# Altium footprint library TSOP (0.5mm Pitch).PcbLib: 14 footprints
Each footprint in its own frame and in the unit in brackets; x right, y up, seen from the top. Pads: shape width x height; smd on the part's side, far side on the other; paste and mask are expansions set on the pad; w line width, h text height; cw(c..) or ccw(c..) is an arc to the next point about the centre after c.
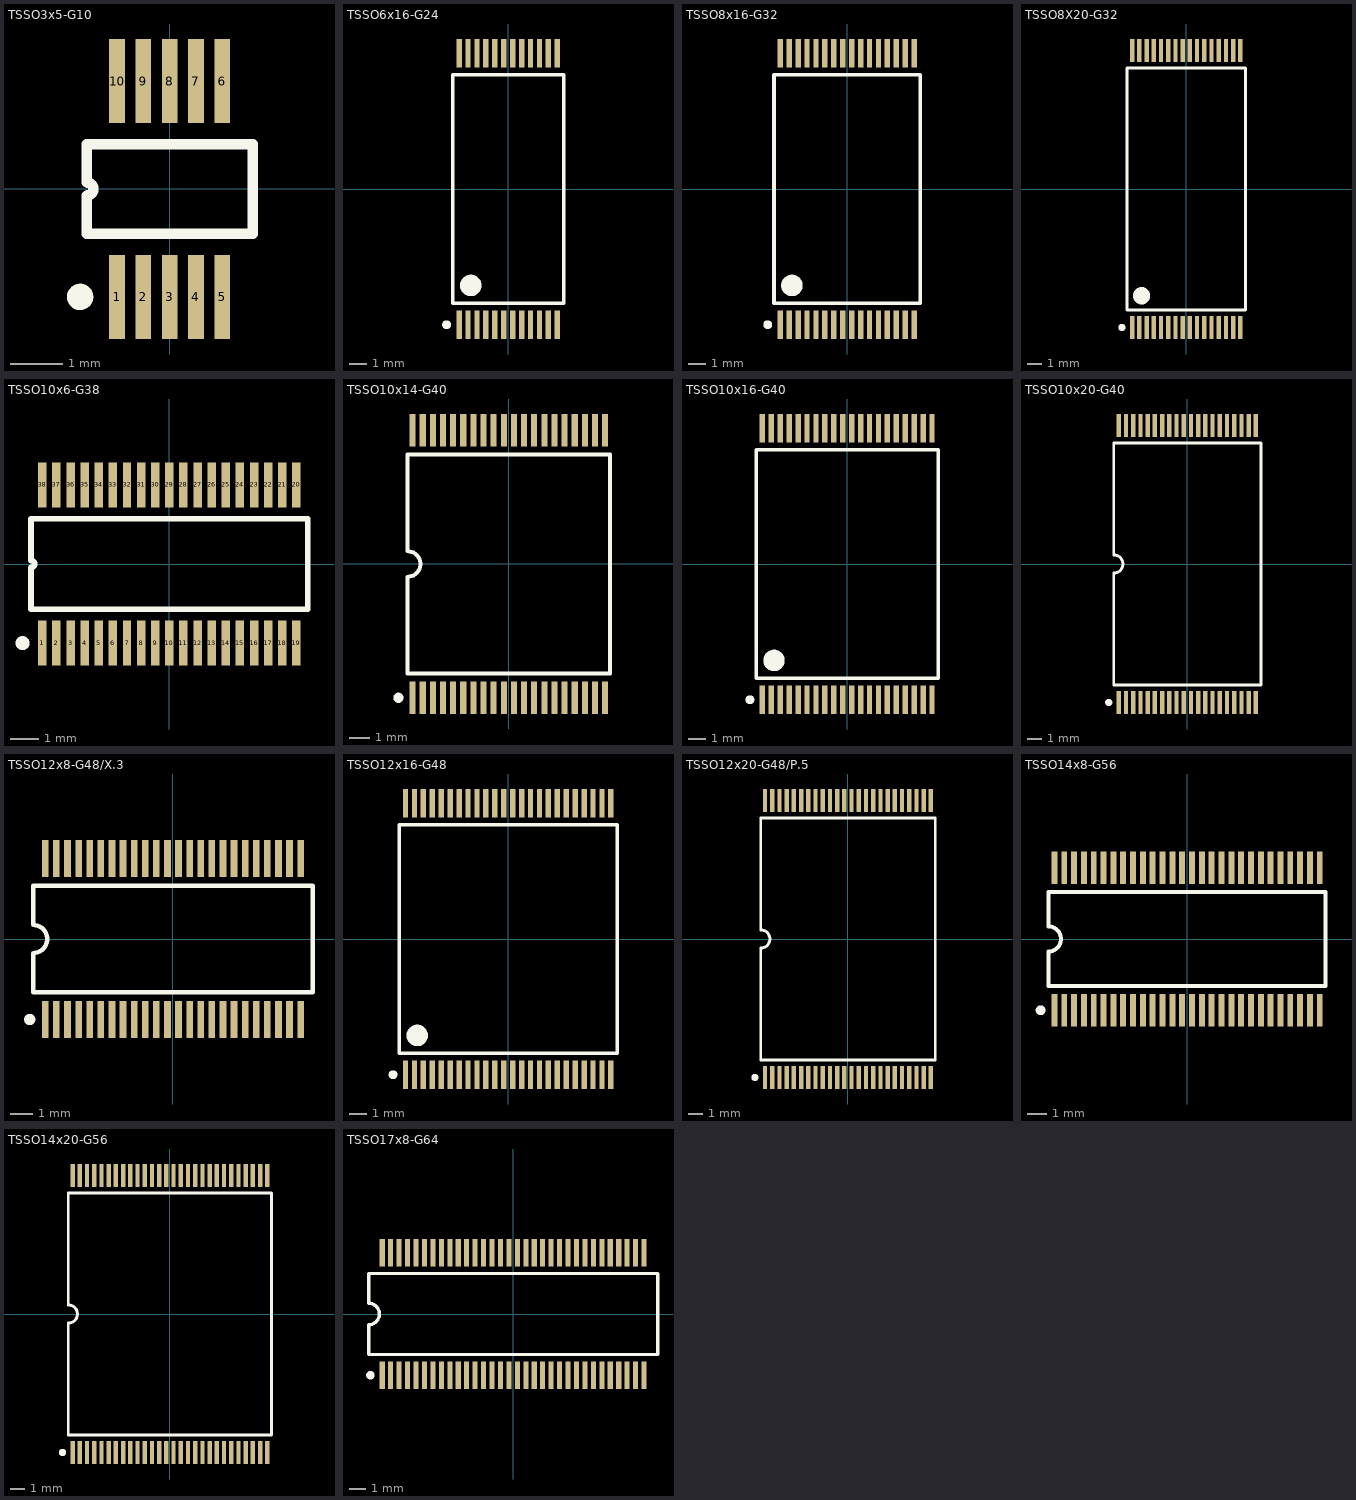
[diagram p0: the footprints below, top view; thin cyan lines are the x and y axes]

## TSSO3x5-G10 [mm] "Shrink Small Outline; 10 Leads; Body Width 3 mm; Pitch 0.5 mm"
height 1.1
pads (10):
  rect 0.3x1.6 smd: 1(-1,-2.05) 2(-0.5,-2.05) 3(0,-2.05) 4(0.5,-2.05) 5(1,-2.05) 6(1,2.05) 7(0.5,2.05) 8(0,2.05) 9(-0.5,2.05) 10(-1,2.05)
Top Overlay:
  circle w0.25: c-1.7,-2.05 r0.125
  lines w0.2: -1.575,-0.85 1.575,-0.85 1.575,0.85 -1.575,0.85 -1.575,0.125 cw(c-1.575,0) -1.575,-0.125 -1.575,-0.85

## TSSO6x16-G24 [mm] "Shrink Small Outline; 24 Leads; Body Width 14.4 mm; Pitch 0.5 mm"
height 1.27
pads (24):
  rect 0.3x1.6 smd: 1(-2.75,-7.6) 2(-2.25,-7.6) 3(-1.75,-7.6) 4(-1.25,-7.6) 5(-0.75,-7.6) 6(-0.25,-7.6) 7(0.25,-7.6) 8(0.75,-7.6) 9(1.25,-7.6) 10(1.75,-7.6) 11(2.25,-7.6) 12(2.75,-7.6) 13(2.75,7.6) 14(2.25,7.6) 15(1.75,7.6) 16(1.25,7.6) 17(0.75,7.6) 18(0.25,7.6) 19(-0.25,7.6) 20(-0.75,7.6) 21(-1.25,7.6) 22(-1.75,7.6) 23(-2.25,7.6) 24(-2.75,7.6)
Top Overlay:
  circle w0.25: c-3.45,-7.6 r0.125
  circle w0.6: c-2.1,-5.4 r0.3
  lines w0.2: -3.1,-6.4 -3.1,-0.635 -3.1,6.4 3.1,6.4 3.1,-6.4 -3.1,-6.4

## TSSO8x16-G32 [mm] "Shrink Small Outline; 32 Leads; Body Width 14.4 mm; Pitch 0.5 mm"
height 1.27
pads (32):
  rect 0.3x1.6 smd: 1(-3.75,-7.6) 2(-3.25,-7.6) 3(-2.75,-7.6) 4(-2.25,-7.6) 5(-1.75,-7.6) 6(-1.25,-7.6) 7(-0.75,-7.6) 8(-0.25,-7.6) 9(0.25,-7.6) 10(0.75,-7.6) 11(1.25,-7.6) 12(1.75,-7.6) 13(2.25,-7.6) 14(2.75,-7.6) 15(3.25,-7.6) 16(3.75,-7.6) 17(3.75,7.6) 18(3.25,7.6) 19(2.75,7.6) 20(2.25,7.6) 21(1.75,7.6) 22(1.25,7.6) 23(0.75,7.6) 24(0.25,7.6) 25(-0.25,7.6) 26(-0.75,7.6) 27(-1.25,7.6) 28(-1.75,7.6) 29(-2.25,7.6) 30(-2.75,7.6) 31(-3.25,7.6) 32(-3.75,7.6)
Top Overlay:
  circle w0.6: c-3.1,-5.4 r0.3
  circle w0.25: c-4.45,-7.6 r0.125
  lines w0.2: -4.1,-6.4 4.1,-6.4 4.1,6.4 -4.1,6.4 -4.1,-0.635 -4.1,-6.4

## TSSO8X20-G32 [mm] "Shrink Small Outline, Plastic, Thin; 32 Leads; Body Width 18.4 mm; Pitch 0.5 mm"
height 1.2
pads (32):
  rect 0.3x1.6 smd: 1(-3.75,-9.6) 2(-3.25,-9.6) 3(-2.75,-9.6) 4(-2.25,-9.6) 5(-1.75,-9.6) 6(-1.25,-9.6) 7(-0.75,-9.6) 8(-0.25,-9.6) 9(0.25,-9.6) 10(0.75,-9.6) 11(1.25,-9.6) 12(1.75,-9.6) 13(2.25,-9.6) 14(2.75,-9.6) 15(3.25,-9.6) 16(3.75,-9.6) 17(3.75,9.6) 18(3.25,9.6) 19(2.75,9.6) 20(2.25,9.6) 21(1.75,9.6) 22(1.25,9.6) 23(0.75,9.6) 24(0.25,9.6) 25(-0.25,9.6) 26(-0.75,9.6) 27(-1.25,9.6) 28(-1.75,9.6) 29(-2.25,9.6) 30(-2.75,9.6) 31(-3.25,9.6) 32(-3.75,9.6)
Top Overlay:
  circle w0.6: c-3.1,-7.4 r0.3
  circle w0.25: c-4.46,-9.6 r0.125
  lines w0.2: -4.1,-8.4 4.1,-8.4 4.1,8.4 -4.1,8.4 -4.1,-0.635 -4.1,-8.4

## TSSO10x6-G38 [mm] "Shrink Small Outline; 38 Leads; Body Width 4.4 mm; Pitch 0.5 mm"
height 1.1
pads (38):
  rect 0.3x1.6 smd: 1(-4.5,-2.8) 2(-4,-2.8) 3(-3.5,-2.8) 4(-3,-2.8) 5(-2.5,-2.8) 6(-2,-2.8) 7(-1.5,-2.8) 8(-1,-2.8) 9(-0.5,-2.8) 10(0,-2.8) 11(0.5,-2.8) 12(1,-2.8) 13(1.5,-2.8) 14(2,-2.8) 15(2.5,-2.8) 16(3,-2.8) 17(3.5,-2.8) 18(4,-2.8) 19(4.5,-2.8) 20(4.5,2.8) 21(4,2.8) 22(3.5,2.8) 23(3,2.8) 24(2.5,2.8) 25(2,2.8) 26(1.5,2.8) 27(1,2.8) 28(0.5,2.8) 29(0,2.8) 30(-0.5,2.8) 31(-1,2.8) 32(-1.5,2.8) 33(-2,2.8) 34(-2.5,2.8) 35(-3,2.8) 36(-3.5,2.8) 37(-4,2.8) 38(-4.5,2.8)
Top Overlay:
  circle w0.25: c-5.2,-2.8 r0.125
  lines w0.2: -4.9,-1.6 4.9,-1.6 4.9,1.6 -4.9,1.6 -4.9,0.125 cw(c-4.9,0) -4.9,-0.125 -4.9,-1.6

## TSSO10x14-G40 [mm] "Shrink Small Outline; 40 Leads; Body Width 12.4 mm; Pitch 0.5 mm"
height 1.2
pads (40):
  rect 0.3x1.6 smd: 1(-4.75,-6.6) 2(-4.25,-6.6) 3(-3.75,-6.6) 4(-3.25,-6.6) 5(-2.75,-6.6) 6(-2.25,-6.6) 7(-1.75,-6.6) 8(-1.25,-6.6) 9(-0.75,-6.6) 10(-0.25,-6.6) 11(0.25,-6.6) 12(0.75,-6.6) 13(1.25,-6.6) 14(1.75,-6.6) 15(2.25,-6.6) 16(2.75,-6.6) 17(3.25,-6.6) 18(3.75,-6.6) 19(4.25,-6.6) 20(4.75,-6.6) 21(4.75,6.6) 22(4.25,6.6) 23(3.75,6.6) 24(3.25,6.6) 25(2.75,6.6) 26(2.25,6.6) 27(1.75,6.6) 28(1.25,6.6) 29(0.75,6.6) 30(0.25,6.6) 31(-0.25,6.6) 32(-0.75,6.6) 33(-1.25,6.6) 34(-1.75,6.6) 35(-2.25,6.6) 36(-2.75,6.6) 37(-3.25,6.6) 38(-3.75,6.6) 39(-4.25,6.6) 40(-4.75,6.6)
Top Overlay:
  circle w0.25: c-5.45,-6.6 r0.125
  lines w0.2: -5,-5.4 5,-5.4 5,5.4 -5,5.4 -5,0.635 cw(c-5,0) -5,-0.635 -5,-5.4

## TSSO10x16-G40 [mm] "Shrink Small Outline; 40 Leads; Body Width 14.4 mm; Pitch 0.5 mm"
height 1.27
pads (40):
  rect 0.3x1.6 smd: 1(-4.75,-7.6) 2(-4.25,-7.6) 3(-3.75,-7.6) 4(-3.25,-7.6) 5(-2.75,-7.6) 6(-2.25,-7.6) 7(-1.75,-7.6) 8(-1.25,-7.6) 9(-0.75,-7.6) 10(-0.25,-7.6) 11(0.25,-7.6) 12(0.75,-7.6) 13(1.25,-7.6) 14(1.75,-7.6) 15(2.25,-7.6) 16(2.75,-7.6) 17(3.25,-7.6) 18(3.75,-7.6) 19(4.25,-7.6) 20(4.75,-7.6) 21(4.75,7.6) 22(4.25,7.6) 23(3.75,7.6) 24(3.25,7.6) 25(2.75,7.6) 26(2.25,7.6) 27(1.75,7.6) 28(1.25,7.6) 29(0.75,7.6) 30(0.25,7.6) 31(-0.25,7.6) 32(-0.75,7.6) 33(-1.25,7.6) 34(-1.75,7.6) 35(-2.25,7.6) 36(-2.75,7.6) 37(-3.25,7.6) 38(-3.75,7.6) 39(-4.25,7.6) 40(-4.75,7.6)
Top Overlay:
  circle w0.25: c-5.45,-7.6 r0.125
  circle w0.6: c-4.1,-5.4 r0.3
  lines w0.2: -5.1,-6.4 -5.1,-0.635 -5.1,6.4 5.1,6.4 5.1,-6.4 -5.1,-6.4

## TSSO10x20-G40 [mm] "Shrink Small Outline; 40 Leads; Body Width 18.4 mm; Pitch 0.5 mm"
height 1.2
pads (40):
  rect 0.3x1.6 smd: 1(-4.75,-9.6) 2(-4.25,-9.6) 3(-3.75,-9.6) 4(-3.25,-9.6) 5(-2.75,-9.6) 6(-2.25,-9.6) 7(-1.75,-9.6) 8(-1.25,-9.6) 9(-0.75,-9.6) 10(-0.25,-9.6) 11(0.25,-9.6) 12(0.75,-9.6) 13(1.25,-9.6) 14(1.75,-9.6) 15(2.25,-9.6) 16(2.75,-9.6) 17(3.25,-9.6) 18(3.75,-9.6) 19(4.25,-9.6) 20(4.75,-9.6) 21(4.75,9.6) 22(4.25,9.6) 23(3.75,9.6) 24(3.25,9.6) 25(2.75,9.6) 26(2.25,9.6) 27(1.75,9.6) 28(1.25,9.6) 29(0.75,9.6) 30(0.25,9.6) 31(-0.25,9.6) 32(-0.75,9.6) 33(-1.25,9.6) 34(-1.75,9.6) 35(-2.25,9.6) 36(-2.75,9.6) 37(-3.25,9.6) 38(-3.75,9.6) 39(-4.25,9.6) 40(-4.75,9.6)
Top Overlay:
  circle w0.25: c-5.45,-9.6 r0.125
  lines w0.2: -5.1,-8.4 5.1,-8.4 5.1,8.4 -5.1,8.4 -5.1,0.635 cw(c-5.1,0) -5.1,-0.635 -5.1,-8.4

## TSSO12x8-G48/X.3 [mm] "Shrink Small Outline; 48 Leads; Body Width 6.1 mm; Pitch 0.5 mm"
height 1.2
pads (48):
  rect 0.3x1.65 smd: 1(-5.75,-3.625) 2(-5.25,-3.625) 3(-4.75,-3.625) 4(-4.25,-3.625) 5(-3.75,-3.625) 6(-3.25,-3.625) 7(-2.75,-3.625) 8(-2.25,-3.625) 9(-1.75,-3.625) 10(-1.25,-3.625) 11(-0.75,-3.625) 12(-0.25,-3.625) 13(0.25,-3.625) 14(0.75,-3.625) 15(1.25,-3.625) 16(1.75,-3.625) 17(2.25,-3.625) 18(2.75,-3.625) 19(3.25,-3.625) 20(3.75,-3.625) 21(4.25,-3.625) 22(4.75,-3.625) 23(5.25,-3.625) 24(5.75,-3.625) 25(5.75,3.625) 26(5.25,3.625) 27(4.75,3.625) 28(4.25,3.625) 29(3.75,3.625) 30(3.25,3.625) 31(2.75,3.625) 32(2.25,3.625) 33(1.75,3.625) 34(1.25,3.625) 35(0.75,3.625) 36(0.25,3.625) 37(-0.25,3.625) 38(-0.75,3.625) 39(-1.25,3.625) 40(-1.75,3.625) 41(-2.25,3.625) 42(-2.75,3.625) 43(-3.25,3.625) 44(-3.75,3.625) 45(-4.25,3.625) 46(-4.75,3.625) 47(-5.25,3.625) 48(-5.75,3.625)
Top Overlay:
  circle w0.25: c-6.45,-3.625 r0.125
  lines w0.2: -6.3,-2.4 6.3,-2.4 6.3,2.4 -6.3,2.4 -6.3,0.635 cw(c-6.3,0) -6.3,-0.635 -6.3,-2.4

## TSSO12x16-G48 [mm] "Shrink Small Outline; 48 Leads; Body Width 14.4 mm; Pitch 0.5 mm"
height 1.27
pads (48):
  rect 0.3x1.6 smd: 1(-5.75,-7.6) 2(-5.25,-7.6) 3(-4.75,-7.6) 4(-4.25,-7.6) 5(-3.75,-7.6) 6(-3.25,-7.6) 7(-2.75,-7.6) 8(-2.25,-7.6) 9(-1.75,-7.6) 10(-1.25,-7.6) 11(-0.75,-7.6) 12(-0.25,-7.6) 13(0.25,-7.6) 14(0.75,-7.6) 15(1.25,-7.6) 16(1.75,-7.6) 17(2.25,-7.6) 18(2.75,-7.6) 19(3.25,-7.6) 20(3.75,-7.6) 21(4.25,-7.6) 22(4.75,-7.6) 23(5.25,-7.6) 24(5.75,-7.6) 25(5.75,7.6) 26(5.25,7.6) 27(4.75,7.6) 28(4.25,7.6) 29(3.75,7.6) 30(3.25,7.6) 31(2.75,7.6) 32(2.25,7.6) 33(1.75,7.6) 34(1.25,7.6) 35(0.75,7.6) 36(0.25,7.6) 37(-0.25,7.6) 38(-0.75,7.6) 39(-1.25,7.6) 40(-1.75,7.6) 41(-2.25,7.6) 42(-2.75,7.6) 43(-3.25,7.6) 44(-3.75,7.6) 45(-4.25,7.6) 46(-4.75,7.6) 47(-5.25,7.6) 48(-5.75,7.6)
Top Overlay:
  circle w0.25: c-6.45,-7.6 r0.125
  circle w0.6: c-5.1,-5.4 r0.3
  lines w0.2: -6.1,-6.4 -6.1,-0.635 -6.1,6.4 6.1,6.4 6.1,-6.4 -6.1,-6.4

## TSSO12x20-G48/P.5 [mm] "Shrink Small Outline; 48 Leads; Body Width 18.4 mm; Pitch 0.5 mm"
height 1.2
pads (48):
  rect 0.3x1.6 smd: 1(-5.75,-9.6) 2(-5.25,-9.6) 3(-4.75,-9.6) 4(-4.25,-9.6) 5(-3.75,-9.6) 6(-3.25,-9.6) 7(-2.75,-9.6) 8(-2.25,-9.6) 9(-1.75,-9.6) 10(-1.25,-9.6) 11(-0.75,-9.6) 12(-0.25,-9.6) 13(0.25,-9.6) 14(0.75,-9.6) 15(1.25,-9.6) 16(1.75,-9.6) 17(2.25,-9.6) 18(2.75,-9.6) 19(3.25,-9.6) 20(3.75,-9.6) 21(4.25,-9.6) 22(4.75,-9.6) 23(5.25,-9.6) 24(5.75,-9.6) 25(5.75,9.6) 26(5.25,9.6) 27(4.75,9.6) 28(4.25,9.6) 29(3.75,9.6) 30(3.25,9.6) 31(2.75,9.6) 32(2.25,9.6) 33(1.75,9.6) 34(1.25,9.6) 35(0.75,9.6) 36(0.25,9.6) 37(-0.25,9.6) 38(-0.75,9.6) 39(-1.25,9.6) 40(-1.75,9.6) 41(-2.25,9.6) 42(-2.75,9.6) 43(-3.25,9.6) 44(-3.75,9.6) 45(-4.25,9.6) 46(-4.75,9.6) 47(-5.25,9.6) 48(-5.75,9.6)
Top Overlay:
  circle w0.25: c-6.45,-9.6 r0.125
  lines w0.2: -6.05,-8.4 6.05,-8.4 6.05,8.4 -6.05,8.4 -6.05,0.635 cw(c-6.05,0) -6.05,-0.635 -6.05,-8.4

## TSSO14x8-G56 [mm] "Shrink Small Outline; 56 Leads; Body Width 6.1 mm; Pitch 0.5 mm"
height 1.2
pads (56):
  rect 0.3x1.65 smd: 1(-6.75,-3.625) 2(-6.25,-3.625) 3(-5.75,-3.625) 4(-5.25,-3.625) 5(-4.75,-3.625) 6(-4.25,-3.625) 7(-3.75,-3.625) 8(-3.25,-3.625) 9(-2.75,-3.625) 10(-2.25,-3.625) 11(-1.75,-3.625) 12(-1.25,-3.625) 13(-0.75,-3.625) 14(-0.25,-3.625) 15(0.25,-3.625) 16(0.75,-3.625) 17(1.25,-3.625) 18(1.75,-3.625) 19(2.25,-3.625) 20(2.75,-3.625) 21(3.25,-3.625) 22(3.75,-3.625) 23(4.25,-3.625) 24(4.75,-3.625) 25(5.25,-3.625) 26(5.75,-3.625) 27(6.25,-3.625) 28(6.75,-3.625) 29(6.75,3.625) 30(6.25,3.625) 31(5.75,3.625) 32(5.25,3.625) 33(4.75,3.625) 34(4.25,3.625) 35(3.75,3.625) 36(3.25,3.625) 37(2.75,3.625) 38(2.25,3.625) 39(1.75,3.625) 40(1.25,3.625) 41(0.75,3.625) 42(0.25,3.625) 43(-0.25,3.625) 44(-0.75,3.625) 45(-1.25,3.625) 46(-1.75,3.625) 47(-2.25,3.625) 48(-2.75,3.625) 49(-3.25,3.625) 50(-3.75,3.625) 51(-4.25,3.625) 52(-4.75,3.625) 53(-5.25,3.625) 54(-5.75,3.625) 55(-6.25,3.625) 56(-6.75,3.625)
Top Overlay:
  circle w0.25: c-7.45,-3.625 r0.125
  lines w0.2: -7.05,-2.4 7.05,-2.4 7.05,2.4 -7.05,2.4 -7.05,0.635 cw(c-7.05,0) -7.05,-0.635 -7.05,-2.4

## TSSO14x20-G56 [mm] "Shrink Small Outline; 56 Leads; Body Width 18.4 mm; Pitch 0.5 mm"
height 1.2
pads (56):
  rect 0.3x1.6 smd: 1(-6.75,-9.6) 2(-6.25,-9.6) 3(-5.75,-9.6) 4(-5.25,-9.6) 5(-4.75,-9.6) 6(-4.25,-9.6) 7(-3.75,-9.6) 8(-3.25,-9.6) 9(-2.75,-9.6) 10(-2.25,-9.6) 11(-1.75,-9.6) 12(-1.25,-9.6) 13(-0.75,-9.6) 14(-0.25,-9.6) 15(0.25,-9.6) 16(0.75,-9.6) 17(1.25,-9.6) 18(1.75,-9.6) 19(2.25,-9.6) 20(2.75,-9.6) 21(3.25,-9.6) 22(3.75,-9.6) 23(4.25,-9.6) 24(4.75,-9.6) 25(5.25,-9.6) 26(5.75,-9.6) 27(6.25,-9.6) 28(6.75,-9.6) 29(6.75,9.6) 30(6.25,9.6) 31(5.75,9.6) 32(5.25,9.6) 33(4.75,9.6) 34(4.25,9.6) 35(3.75,9.6) 36(3.25,9.6) 37(2.75,9.6) 38(2.25,9.6) 39(1.75,9.6) 40(1.25,9.6) 41(0.75,9.6) 42(0.25,9.6) 43(-0.25,9.6) 44(-0.75,9.6) 45(-1.25,9.6) 46(-1.75,9.6) 47(-2.25,9.6) 48(-2.75,9.6) 49(-3.25,9.6) 50(-3.75,9.6) 51(-4.25,9.6) 52(-4.75,9.6) 53(-5.25,9.6) 54(-5.75,9.6) 55(-6.25,9.6) 56(-6.75,9.6)
Top Overlay:
  circle w0.25: c-7.45,-9.6 r0.125
  lines w0.2: -7.05,-8.4 -7.05,-0.635 ccw(c-7.05,0) -7.05,0.635 -7.05,8.4 7.05,8.4 7.05,-8.4 -7.05,-8.4

## TSSO17x8-G64 [mm] "Shrink Small Outline; 64 Leads; Body Width 6.1 mm; Pitch 0.5 mm"
height 1.2
pads (64):
  rect 0.3x1.65 smd: 1(-7.75,-3.625) 2(-7.25,-3.625) 3(-6.75,-3.625) 4(-6.25,-3.625) 5(-5.75,-3.625) 6(-5.25,-3.625) 7(-4.75,-3.625) 8(-4.25,-3.625) 9(-3.75,-3.625) 10(-3.25,-3.625) 11(-2.75,-3.625) 12(-2.25,-3.625) 13(-1.75,-3.625) 14(-1.25,-3.625) 15(-0.75,-3.625) 16(-0.25,-3.625) 17(0.25,-3.625) 18(0.75,-3.625) 19(1.25,-3.625) 20(1.75,-3.625) 21(2.25,-3.625) 22(2.75,-3.625) 23(3.25,-3.625) 24(3.75,-3.625) 25(4.25,-3.625) 26(4.75,-3.625) 27(5.25,-3.625) 28(5.75,-3.625) 29(6.25,-3.625) 30(6.75,-3.625) 31(7.25,-3.625) 32(7.75,-3.625) 33(7.75,3.625) 34(7.25,3.625) 35(6.75,3.625) 36(6.25,3.625) 37(5.75,3.625) 38(5.25,3.625) 39(4.75,3.625) 40(4.25,3.625) 41(3.75,3.625) 42(3.25,3.625) 43(2.75,3.625) 44(2.25,3.625) 45(1.75,3.625) 46(1.25,3.625) 47(0.75,3.625) 48(0.25,3.625) 49(-0.25,3.625) 50(-0.75,3.625) 51(-1.25,3.625) 52(-1.75,3.625) 53(-2.25,3.625) 54(-2.75,3.625) 55(-3.25,3.625) 56(-3.75,3.625) 57(-4.25,3.625) 58(-4.75,3.625) 59(-5.25,3.625) 60(-5.75,3.625) 61(-6.25,3.625) 62(-6.75,3.625) 63(-7.25,3.625) 64(-7.75,3.625)
Top Overlay:
  circle w0.25: c-8.45,-3.625 r0.125
  lines w0.2: -8.55,-2.4 8.55,-2.4 8.55,2.4 -8.55,2.4 -8.55,0.635 cw(c-8.55,0) -8.55,-0.635 -8.55,-2.4